# Altium schematic symbol library Skyworks.SchLib: 12 symbols
Pins are listed as number, name and electrical type; pins without a type are passive.

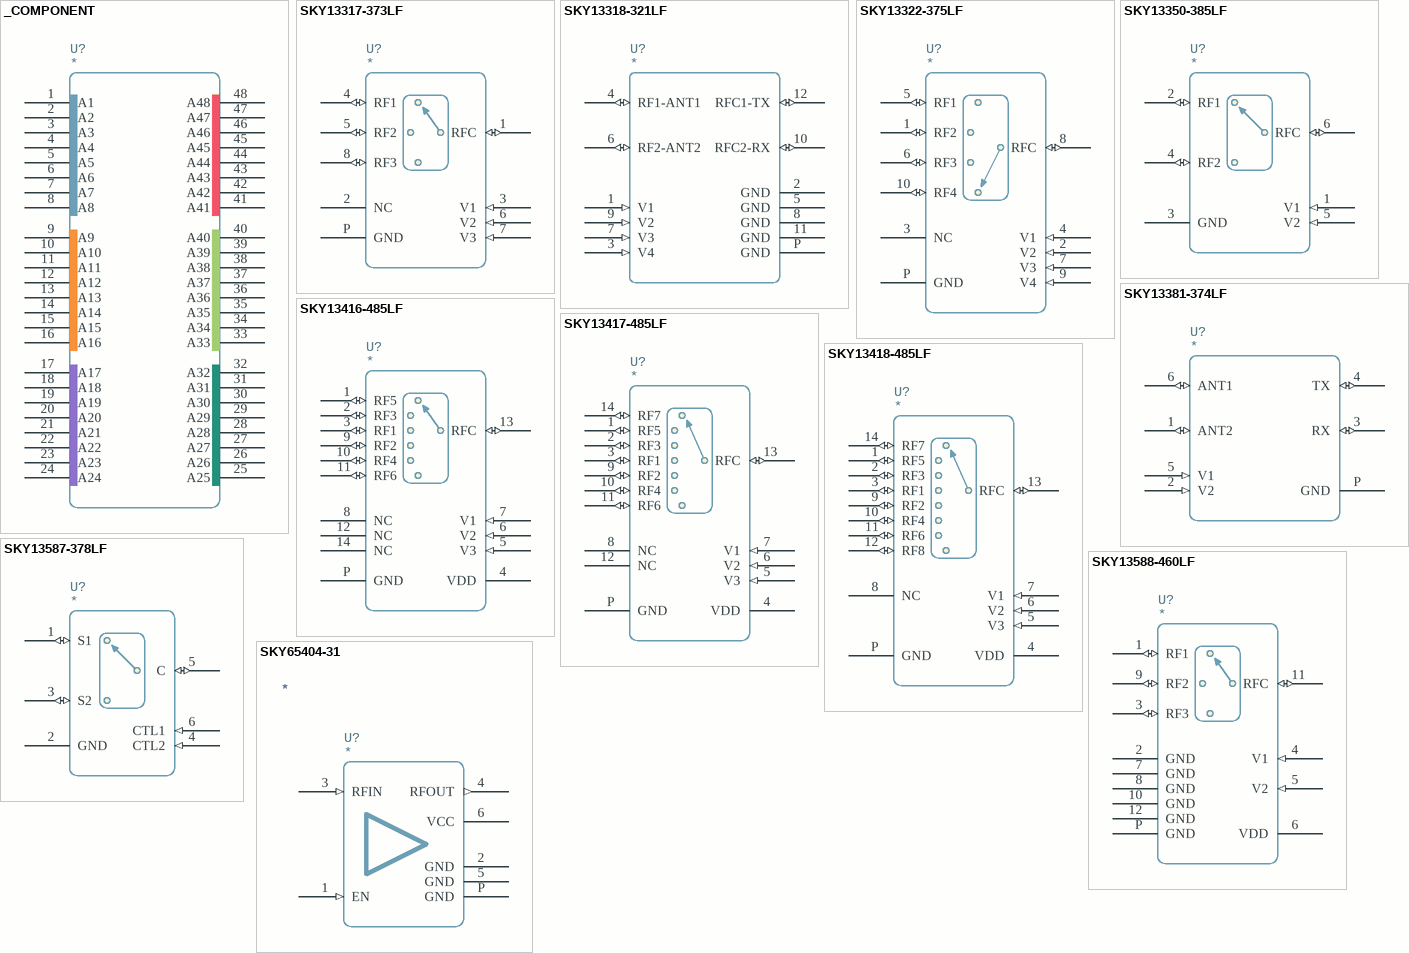
[diagram p0: symbols _COMPONENT to SKY65404-31]

## _COMPONENT
designator U?
pins: 1 A1, 2 A2, 3 A3, 4 A4, 5 A5, 6 A6, 7 A7, 8 A8, 9 A9, 10 A10, 11 A11, 12 A12, 13 A13, 14 A14, 15 A15, 16 A16, 17 A17, 18 A18, 19 A19, 20 A20, 21 A21, 22 A22, 23 A23, 24 A24, 25 A25, 26 A26, 27 A27, 28 A28, 29 A29, 30 A30, 31 A31, 32 A32, 33 A33, 34 A34, 35 A35, 36 A36, 37 A37, 38 A38, 39 A39, 40 A40, 41 A41, 42 A42, 43 A43, 44 A44, 45 A45, 46 A46, 47 A47, 48 A48

## SKY13317-373LF
designator U?
footprint SKY-MLP-8
pins: 1 RFC (io), 2 NC, 3 V1 (in), 4 RF1 (io), 5 RF2 (io), 6 V2 (in), 7 V3 (in), 8 RF3 (io), P GND

## SKY13318-321LF
designator U?
pins: 1 V1 (in), 2 GND, 3 V4 (in), 4 RF1-ANT1 (io), 5 GND, 6 RF2-ANT2 (io), 7 V3 (in), 8 GND, 9 V2 (in), 10 RFC2-RX (io), 11 GND, 12 RFC1-TX (io), P GND

## SKY13322-375LF
designator U?
pins: 1 RF2 (io), 2 V2 (in), 3 NC, 4 V1 (in), 5 RF1 (io), 6 RF3 (io), 7 V3 (in), 8 RFC (io), 9 V4 (in), 10 RF4 (io), P GND

## SKY13350-385LF
designator U?
pins: 1 V1 (in), 2 RF1 (io), 3 GND, 4 RF2 (io), 5 V2 (in), 6 RFC (io)

## SKY13381-374LF
designator U?
pins: 1 ANT2 (io), 2 V2 (in), 3 RX (io), 4 TX (io), 5 V1 (in), 6 ANT1 (io), P GND

## SKY13416-485LF
designator U?
pins: 1 RF5 (io), 2 RF3 (io), 3 RF1 (io), 4 VDD, 5 V3 (in), 6 V2 (in), 7 V1 (in), 8 NC, 9 RF2 (io), 10 RF4 (io), 11 RF6 (io), 12 NC, 13 RFC (io), 14 NC, P GND

## SKY13417-485LF
designator U?
pins: 1 RF5 (io), 2 RF3 (io), 3 RF1 (io), 4 VDD, 5 V3 (in), 6 V2 (in), 7 V1 (in), 8 NC, 9 RF2 (io), 10 RF4 (io), 11 RF6 (io), 12 NC, 13 RFC (io), 14 RF7 (io), P GND

## SKY13418-485LF
designator U?
pins: 1 RF5 (io), 2 RF3 (io), 3 RF1 (io), 4 VDD, 5 V3 (in), 6 V2 (in), 7 V1 (in), 8 NC, 9 RF2 (io), 10 RF4 (io), 11 RF6 (io), 12 RF8 (io), 13 RFC (io), 14 RF7 (io), P GND

## SKY13587-378LF
designator U?
footprint SKY13587-378LF
pins: 1 S1 (io), 2 GND, 3 S2 (io), 4 CTL2 (in), 5 C (io), 6 CTL1 (in)

## SKY13588-460LF
designator U?
pins: 1 RF1 (io), 2 GND, 3 RF3 (io), 4 V1 (in), 5 V2 (in), 6 VDD, 7 GND, 8 GND, 9 RF2 (io), 10 GND, 11 RFC (io), 12 GND, P GND

## SKY65404-31
designator U?
Low Noise Amplifier 4.9 – 5.9 GHz; Vendor: *; Value: *; PN-MFG: *; Version: *; VersionDate: *; SN-NI-ECHO: *
footprint SKY-MLP-6
pins: 1 EN (in), 2 GND, 3 RFIN (in), 4 RFOUT (out), 5 GND, 6 VCC, P GND